# EAGLE library part 27C256 (library sd_tos)
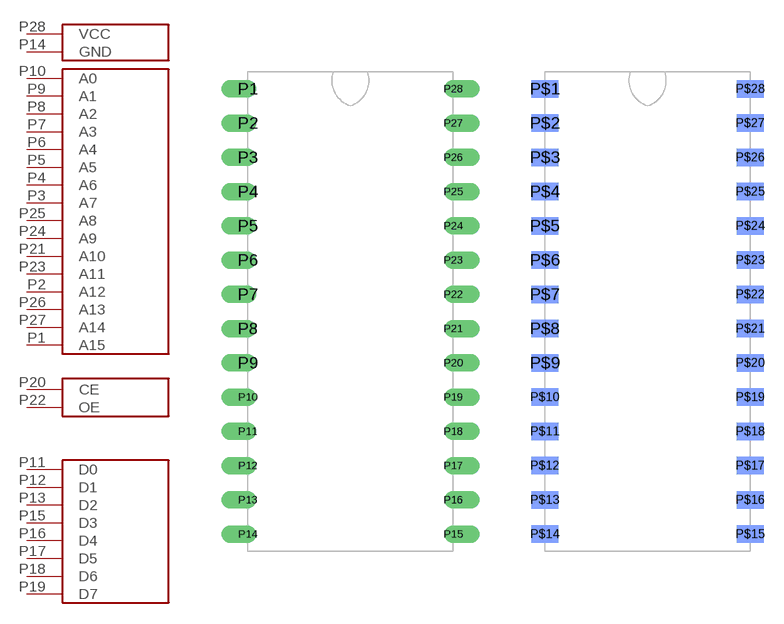
[diagram p4: symbol with the pads of DIP28; footprints DIP28, DIP28_BOTTOM_ONLY]

Designator prefix -

## 27C256NORMAL  [DIP28]
P1  A15
P2  A12
P3  A7
P4  A6
P5  A5
P6  A4
P7  A3
P8  A2
P9  A1
P10  A0
P11  D0
P12  D1
P13  D2
P14  GND
P15  D3
P16  D4
P17  D5
P18  D6
P19  D7
P20  CE
P21  A10
P22  OE
P23  A11
P24  A9
P25  A8
P26  A13
P27  A14
P28  VCC

## 27C256BOTTOM_ONLY  [DIP28_BOTTOM_ONLY]
P$1  A15
P$2  A12
P$3  A7
P$4  A6
P$5  A5
P$6  A4
P$7  A3
P$8  A2
P$9  A1
P$10  A0
P$11  D0
P$12  D1
P$13  D2
P$14  GND
P$15  D3
P$16  D4
P$17  D5
P$18  D6
P$19  D7
P$20  CE
P$21  A10
P$22  OE
P$23  A11
P$24  A9
P$25  A8
P$26  A13
P$27  A14
P$28  VCC

## Footprint DIP28 (pad centres in mm)
drill 0.8 pad 1.27 offset: P1 -7.62,19.05; P2 -7.62,16.51; P3 -7.62,13.97; P4 -7.62,11.43; P5 -7.62,8.89; P6 -7.62,6.35; P7 -7.62,3.81; P8 -7.62,1.27; P9 -7.62,-1.27; P10 -7.62,-3.81; P11 -7.62,-6.35; P12 -7.62,-8.89; P13 -7.62,-11.43; P14 -7.62,-13.97; P15 7.62,-13.97; P16 7.62,-11.43; P17 7.62,-8.89; P18 7.62,-6.35; P19 7.62,-3.81; P20 7.62,-1.27; P21 7.62,1.27; P22 7.62,3.81; P23 7.62,6.35; P24 7.62,8.89; P25 7.62,11.43; P26 7.62,13.97; P27 7.62,16.51; P28 7.62,19.05

## Footprint DIP28_BOTTOM_ONLY (pad centres in mm)
smd 2 x 1.3 bottom: P$1 -7.62,16.51; P$2 -7.62,13.97; P$3 -7.62,11.43; P$4 -7.62,8.89; P$5 -7.62,6.35; P$6 -7.62,3.81; P$7 -7.62,1.27; P$8 -7.62,-1.27; P$9 -7.62,-3.81; P$10 -7.62,-6.35; P$11 -7.62,-8.89; P$12 -7.62,-11.43; P$13 -7.62,-13.97; P$14 -7.62,-16.51; P$15 7.62,-16.51; P$16 7.62,-13.97; P$17 7.62,-11.43; P$18 7.62,-8.89; P$19 7.62,-6.35; P$20 7.62,-3.81; P$21 7.62,-1.27; P$22 7.62,1.27; P$23 7.62,3.81; P$24 7.62,6.35; P$25 7.62,8.89; P$26 7.62,11.43; P$27 7.62,13.97; P$28 7.62,16.51